# Altium footprint library PCB - LED - SAMSUNG LM281BPLUS.PCBLIB: 1 footprints
Each footprint in its own frame and in the unit in brackets; x right, y up, seen from the top. Pads: shape width x height; smd on the part's side, far side on the other; paste and mask are expansions set on the pad; w line width, h text height; cw(c..) or ccw(c..) is an arc to the next point about the centre after c.
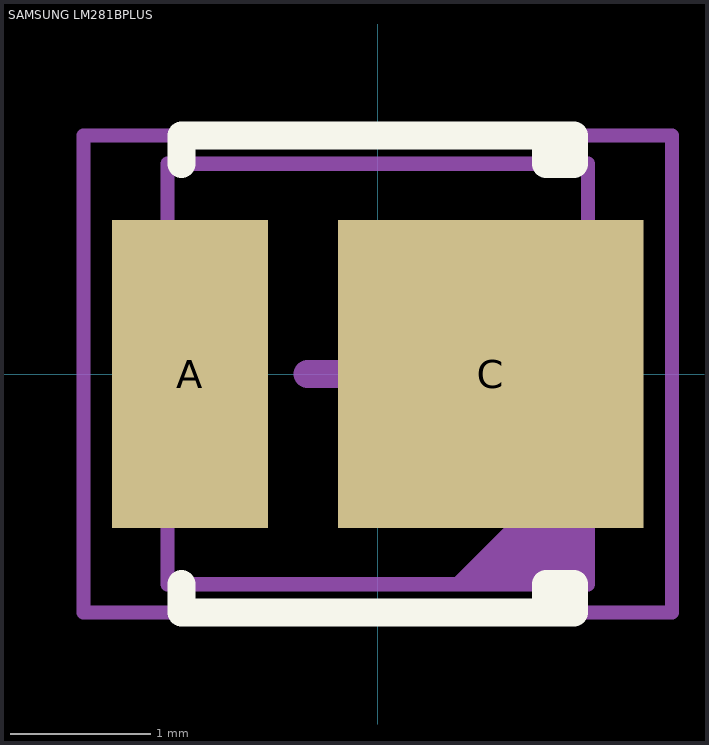
[diagram p0: the footprint, top view; thin cyan lines are the x and y axes]

## SAMSUNG LM281BPLUS [mm]
height 0.7
pads (2):
  rect 1.11x2.2 smd: A(-1.34,0)
  rect 2.18x2.2 smd: C(0.805,0)
Top Overlay:
  lines w0.2: -1.4,-1.5 -1.4,-1.7 1.2,-1.7 ; -1.4,1.5 -1.4,1.7 1.2,1.7 ; 1.2,-1.7 1.3,-1.7 1.4,-1.7 1.4,-1.5 1.2,-1.5 1.2,-1.7 ; 1.2,1.7 1.3,1.7 1.4,1.7 1.4,1.5 1.2,1.5 1.2,1.7
Mechanical 13:
  region: 1.5,-0.5 0.5,-1.5 1.5,-1.5
  lines w0.1: -1.5,-1.5 1.5,-1.5 1.5,1.5 -1.5,1.5 -1.5,-1.5
Mechanical 15:
  lines w0.1: -2.1,-1.7 2.1,-1.7 2.1,1.7 -2.1,1.7 -2.1,-1.7
Mechanical 2 (Mech9):
  lines w0.2: -0.5,0 0.5,0 ; 0,-0.5 0,0.5
3D body "Samsung LM281BPlus.step": height 0.7, standoff 0, extent -1.75,-1.4 1.75,1.4